# EAGLE library part ID_3LA (library ID_3LA)
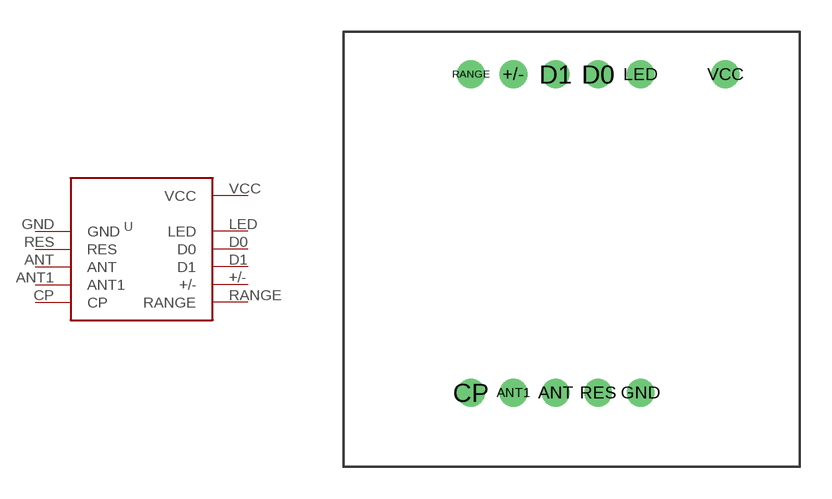
[diagram p0: symbol with the pads of ID_3LA; footprint ID_3LA]

Designator prefix -

## ID_3LA  [ID_3LA]
+/-  +/-
ANT  ANT
ANT1  ANT1
CP  CP
D0  D0
D1  D1
GND  GND
LED  LED
RANGE  RANGE
RES  RES
VCC  VCC

## Footprint ID_3LA (pad centres in mm)
drill 0.8: +/- 8,18.5; ANT 10,3.5; ANT1 8,3.5; CP 6,3.5; D0 12,18.5; D1 10,18.5; GND 14,3.5; LED 14,18.5; RANGE 6,18.5; RES 12,3.5; VCC 18,18.5